# Altium footprint library KF301.PcbLib: 14 footprints
Each footprint in its own frame and in the unit in brackets; x right, y up, seen from the top. Pads: shape width x height; smd on the part's side, far side on the other; paste and mask are expansions set on the pad; w line width, h text height; cw(c..) or ccw(c..) is an arc to the next point about the centre after c.
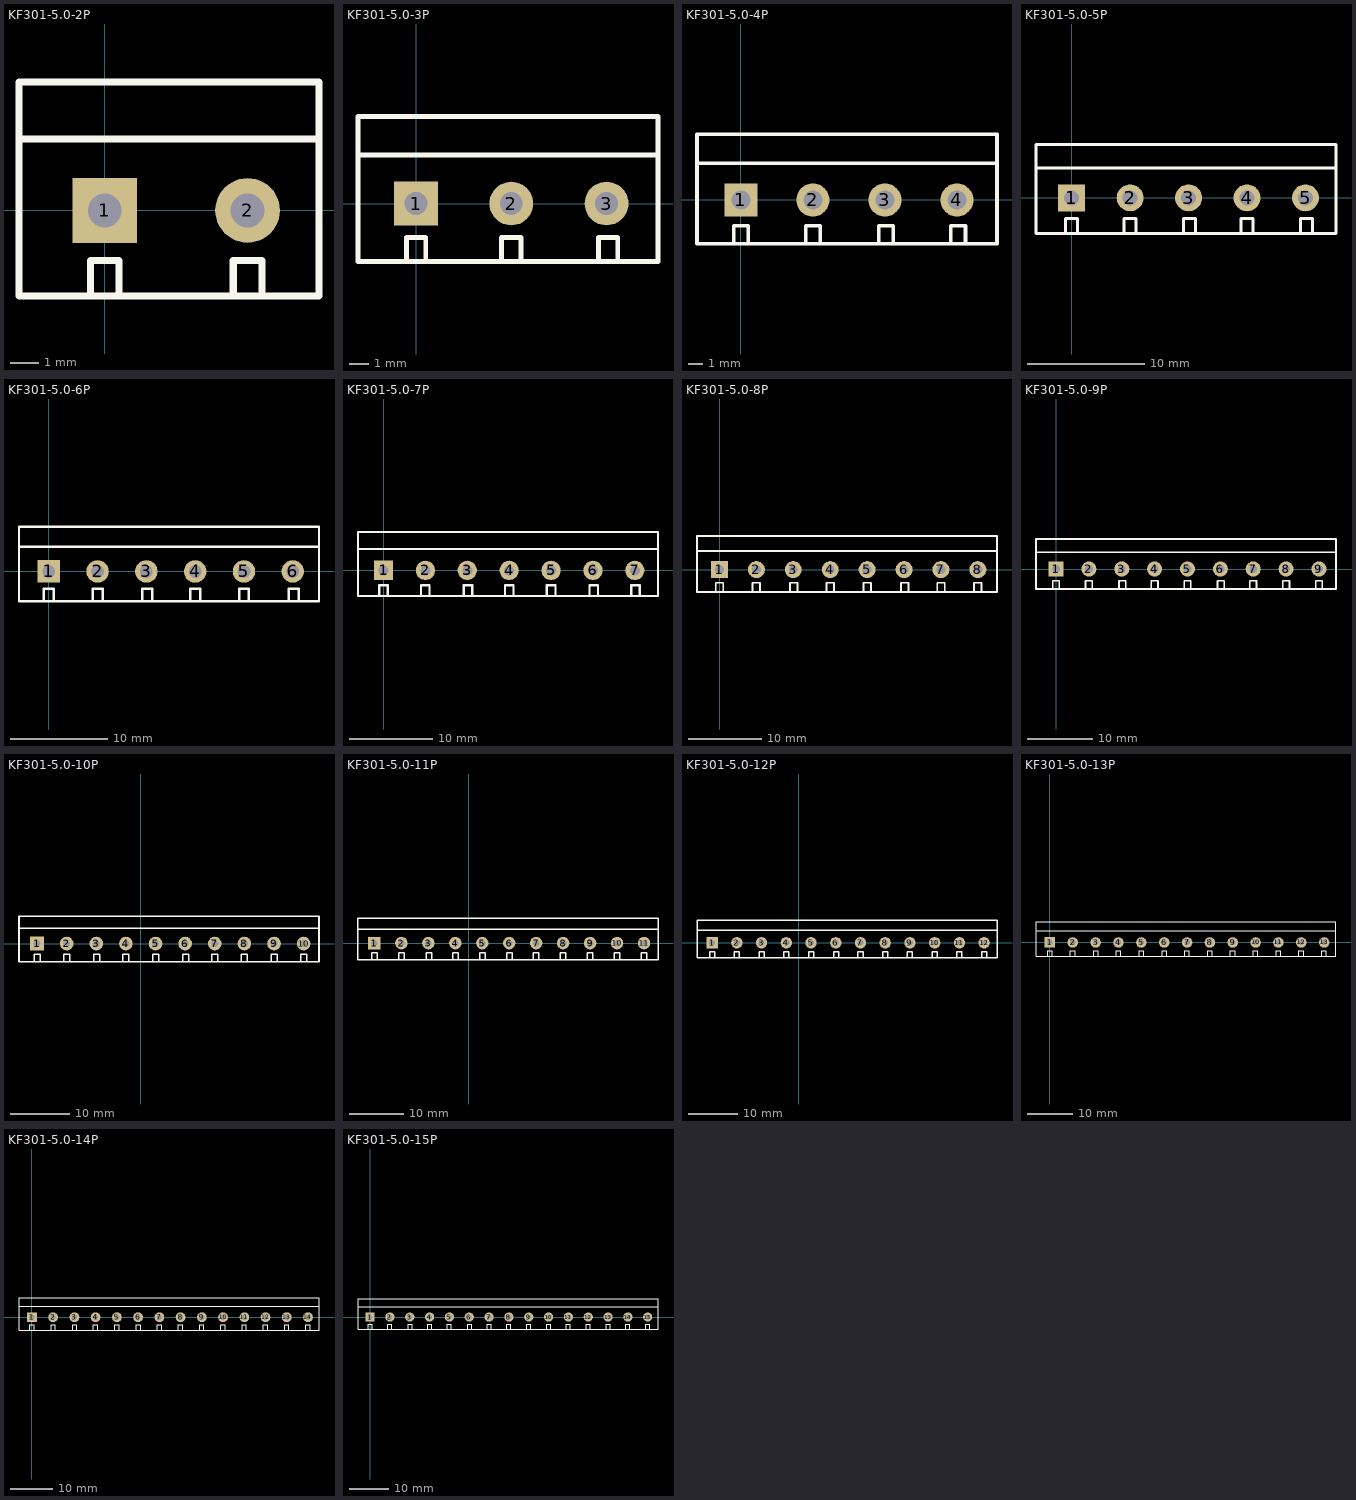
[diagram p0: the footprints below, top view; thin cyan lines are the x and y axes]

## KF301-5.0-2P [mm] "可拼接端子/6A"
pads (2):
  rect 2.3x2.3 hole 1.2: 1(0,0)
  round 2.3 hole 1.2: 2(5.08,0)
Top Overlay:
  lines w0.254: -3.048,2.54 7.62,2.54 ; -0.508,-3.048 -0.508,-1.778 0.508,-1.778 0.508,-3.048 ; 4.572,-3.048 4.572,-1.778 5.588,-1.778 5.588,-3.048 ; -3.048,-3.048 -3.048,4.572 7.62,4.572 7.62,-3.048 -3.048,-3.048
3D body "KF301-5.0.STEP": height 10.05, standoff -3.75, extent -2.997,-3.089 2.503,4.511
3D body "KF301-5.0.STEP": height 10.05, standoff -3.75, extent 2.003,-3.089 7.503,4.511

## KF301-5.0-3P [mm] "可拼接端子/6A"
pads (3):
  rect 2.3x2.3 hole 1.2: 1(0,0)
  round 2.3 hole 1.2: 2(5,0) 3(10,0)
Top Overlay:
  lines w0.254: -3.048,2.54 12.7,2.54 ; -0.508,-3.048 -0.508,-1.778 0.508,-1.778 0.508,-3.048 ; 4.492,-3.048 4.492,-1.778 5.508,-1.778 5.508,-3.048 ; 9.572,-3.048 9.572,-1.778 10.588,-1.778 10.588,-3.048 ; -3.048,-3.048 12.7,-3.048 12.7,4.572 -3.048,4.572 -3.048,-3.048
3D body "KF301-5.0.STEP": height 10.05, standoff -3.75, extent 7.003,-3.089 12.503,4.511
3D body "KF301-5.0.STEP": height 10.05, standoff -3.75, extent 2.003,-3.089 7.503,4.511
3D body "KF301-5.0.STEP": height 10.05, standoff -3.75, extent -2.997,-3.089 2.503,4.511

## KF301-5.0-4P [mm] "可拼接端子/6A"
pads (4):
  rect 2.3x2.3 hole 1.3: 1(0,0)
  round 2.3 hole 1.3: 2(5,0) 3(10,0) 4(15,0)
Top Overlay:
  lines w0.254: -3.048,2.54 17.78,2.54 ; -0.508,-3.048 -0.508,-1.778 0.508,-1.778 0.508,-3.048 ; 4.492,-3.048 4.492,-1.778 5.508,-1.778 5.508,-3.048 ; 9.572,-3.048 9.572,-1.778 10.588,-1.778 10.588,-3.048 ; 14.572,-3.048 14.572,-1.778 15.588,-1.778 15.588,-3.048 ; -3.048,-3.048 -3.048,4.572 17.78,4.572 17.78,-3.048 -3.048,-3.048
3D body "KF301-5.0.STEP": height 10.05, standoff -3.75, extent -2.997,-3.089 2.503,4.511
3D body "KF301-5.0.STEP": height 10.05, standoff -3.75, extent 2.003,-3.089 7.503,4.511
3D body "KF301-5.0.STEP": height 10.05, standoff -3.75, extent 7.003,-3.089 12.503,4.511
3D body "KF301-5.0.STEP": height 10.05, standoff -3.75, extent 12.003,-3.089 17.503,4.511

## KF301-5.0-5P [mm] "可拼接端子/6A"
pads (5):
  rect 2.3x2.3 hole 1.3: 1(0,0)
  round 2.3 hole 1.3: 2(5,0) 3(10,0) 4(15,0) 5(20,0)
Top Overlay:
  lines w0.254: -3.048,2.54 22.606,2.54 ; -0.508,-3.048 -0.508,-1.778 0.508,-1.778 0.508,-3.048 ; 4.492,-3.048 4.492,-1.778 5.508,-1.778 5.508,-3.048 ; 9.572,-3.048 9.572,-1.778 10.588,-1.778 10.588,-3.048 ; 14.492,-3.048 14.492,-1.778 15.508,-1.778 15.508,-3.048 ; 19.572,-3.048 19.572,-1.778 20.588,-1.778 20.588,-3.048 ; -3.048,-3.048 22.606,-3.048 22.606,4.572 -3.048,4.572 -3.048,-3.048
3D body "KF301-5.0.STEP": height 10.05, standoff -3.75, extent 17.003,-3.089 22.503,4.511
3D body "KF301-5.0.STEP": height 10.05, standoff -3.75, extent 12.003,-3.089 17.503,4.511
3D body "KF301-5.0.STEP": height 10.05, standoff -3.75, extent 7.003,-3.089 12.503,4.511
3D body "KF301-5.0.STEP": height 10.05, standoff -3.75, extent 2.003,-3.089 7.503,4.511
3D body "KF301-5.0.STEP": height 10.05, standoff -3.75, extent -2.997,-3.089 2.503,4.511

## KF301-5.0-6P [mm] "可拼接端子/6A"
pads (6):
  rect 2.3x2.3 hole 1.3: 1(0,0)
  round 2.3 hole 1.3: 2(5,0) 3(10,0) 4(15,0) 5(20,0) 6(25,0)
Top Overlay:
  lines w0.254: -3.048,2.54 27.686,2.54 ; -0.508,-3.048 -0.508,-1.778 0.508,-1.778 0.508,-3.048 ; 4.492,-3.048 4.492,-1.778 5.508,-1.778 5.508,-3.048 ; 9.572,-3.048 9.572,-1.778 10.588,-1.778 10.588,-3.048 ; 14.492,-3.048 14.492,-1.778 15.508,-1.778 15.508,-3.048 ; 19.492,-3.048 19.492,-1.778 20.508,-1.778 20.508,-3.048 ; 24.572,-3.048 24.572,-1.778 25.588,-1.778 25.588,-3.048 ; -3.048,-3.048 -3.048,4.572 27.686,4.572 27.686,-3.048 -3.048,-3.048
3D body "KF301-5.0.STEP": height 10.05, standoff -3.75, extent 22.003,-3.089 27.503,4.511
3D body "KF301-5.0.STEP": height 10.05, standoff -3.75, extent 17.003,-3.089 22.503,4.511
3D body "KF301-5.0.STEP": height 10.05, standoff -3.75, extent 12.003,-3.089 17.503,4.511
3D body "KF301-5.0.STEP": height 10.05, standoff -3.75, extent 7.003,-3.089 12.503,4.511
3D body "KF301-5.0.STEP": height 10.05, standoff -3.75, extent 2.003,-3.089 7.503,4.511
3D body "KF301-5.0.STEP": height 10.05, standoff -3.75, extent -2.997,-3.089 2.503,4.511

## KF301-5.0-7P [mm] "可拼接端子/6A"
pads (7):
  rect 2.3x2.3 hole 1.2: 1(0,0)
  round 2.3 hole 1.2: 2(5,0) 3(10,0) 4(15,0) 5(20,0) 6(25,0) 7(30,0)
Top Overlay:
  lines w0.254: -3.048,2.54 32.766,2.54 ; -0.508,-3.048 -0.508,-1.778 0.508,-1.778 0.508,-3.048 ; 4.492,-3.048 4.492,-1.778 5.508,-1.778 5.508,-3.048 ; 9.572,-3.048 9.572,-1.778 10.588,-1.778 10.588,-3.048 ; 14.492,-3.048 14.492,-1.778 15.508,-1.778 15.508,-3.048 ; 19.492,-3.048 19.492,-1.778 20.508,-1.778 20.508,-3.048 ; 24.572,-3.048 24.572,-1.778 25.588,-1.778 25.588,-3.048 ; 29.572,-3.048 29.572,-1.778 30.588,-1.778 30.588,-3.048 ; -3.048,-3.048 -3.048,4.572 32.766,4.572 32.766,-3.048 -3.048,-3.048
3D body "KF301-5.0.STEP": height 10.05, standoff -3.75, extent 27.003,-3.089 32.503,4.511
3D body "KF301-5.0.STEP": height 10.05, standoff -3.75, extent 22.003,-3.089 27.503,4.511
3D body "KF301-5.0.STEP": height 10.05, standoff -3.75, extent 17.003,-3.089 22.503,4.511
3D body "KF301-5.0.STEP": height 10.05, standoff -3.75, extent 12.003,-3.089 17.503,4.511
3D body "KF301-5.0.STEP": height 10.05, standoff -3.75, extent 7.003,-3.089 12.503,4.511
3D body "KF301-5.0.STEP": height 10.05, standoff -3.75, extent 2.003,-3.089 7.503,4.511
3D body "KF301-5.0.STEP": height 10.05, standoff -3.75, extent -2.997,-3.089 2.503,4.511

## KF301-5.0-8P [mm] "可拼接端子/6A"
pads (8):
  rect 2.3x2.3 hole 1.2: 1(0,0)
  round 2.3 hole 1.2: 2(5,0) 3(10,0) 4(15,0) 5(20,0) 6(25,0) 7(30,0) 8(35,0)
Top Overlay:
  lines w0.254: -3.048,2.54 37.592,2.54 ; -0.508,-3.048 -0.508,-1.778 0.508,-1.778 0.508,-3.048 ; 4.492,-3.048 4.492,-1.778 5.508,-1.778 5.508,-3.048 ; 9.572,-3.048 9.572,-1.778 10.588,-1.778 10.588,-3.048 ; 14.492,-3.048 14.492,-1.778 15.508,-1.778 15.508,-3.048 ; 19.492,-3.048 19.492,-1.778 20.508,-1.778 20.508,-3.048 ; 24.572,-3.048 24.572,-1.778 25.588,-1.778 25.588,-3.048 ; 29.492,-3.048 29.492,-1.778 30.508,-1.778 30.508,-3.048 ; 34.492,-3.048 34.492,-1.778 35.508,-1.778 35.508,-3.048 ; -3.048,-3.048 -3.048,4.572 37.592,4.572 37.592,-3.048 -3.048,-3.048
3D body "KF301-5.0.STEP": height 10.05, standoff -3.75, extent -2.997,-3.089 2.503,4.511
3D body "KF301-5.0.STEP": height 10.05, standoff -3.75, extent 2.003,-3.089 7.503,4.511
3D body "KF301-5.0.STEP": height 10.05, standoff -3.75, extent 7.003,-3.089 12.503,4.511
3D body "KF301-5.0.STEP": height 10.05, standoff -3.75, extent 12.003,-3.089 17.503,4.511
3D body "KF301-5.0.STEP": height 10.05, standoff -3.75, extent 17.003,-3.089 22.503,4.511
3D body "KF301-5.0.STEP": height 10.05, standoff -3.75, extent 22.003,-3.089 27.503,4.511
3D body "KF301-5.0.STEP": height 10.05, standoff -3.75, extent 27.003,-3.089 32.503,4.511
3D body "KF301-5.0.STEP": height 10.05, standoff -3.75, extent 32.003,-3.089 37.503,4.511

## KF301-5.0-9P [mm] "可拼接端子/6A"
pads (9):
  rect 2.3x2.3 hole 1.2: 1(0,0)
  round 2.3 hole 1.2: 2(5,0) 3(10,0) 4(15,0) 5(20,0) 6(25,0) 7(30,0) 8(35,0) 9(40,0)
Top Overlay:
  lines w0.254: -3.048,2.54 37.592,2.54 42.552,2.54 ; -0.508,-3.048 -0.508,-1.778 0.508,-1.778 0.508,-3.048 ; 4.492,-3.048 4.492,-1.778 5.508,-1.778 5.508,-3.048 ; 9.572,-3.048 9.572,-1.778 10.588,-1.778 10.588,-3.048 ; 14.492,-3.048 14.492,-1.778 15.508,-1.778 15.508,-3.048 ; 19.492,-3.048 19.492,-1.778 20.508,-1.778 20.508,-3.048 ; 24.572,-3.048 24.572,-1.778 25.588,-1.778 25.588,-3.048 ; 29.492,-3.048 29.492,-1.778 30.508,-1.778 30.508,-3.048 ; 34.492,-3.048 34.492,-1.778 35.508,-1.778 35.508,-3.048 ; 39.492,-3.048 39.492,-1.778 40.508,-1.778 40.508,-3.048 ; -3.048,-3.048 -3.048,4.572 37.592,4.572 42.592,4.572 42.592,-3.048 37.592,-3.048 -3.048,-3.048
3D body "KF301-5.0.STEP": height 10.05, standoff -3.75, extent 37.003,-3.089 42.503,4.511
3D body "KF301-5.0.STEP": height 10.05, standoff -3.75, extent 32.003,-3.089 37.503,4.511
3D body "KF301-5.0.STEP": height 10.05, standoff -3.75, extent 27.003,-3.089 32.503,4.511
3D body "KF301-5.0.STEP": height 10.05, standoff -3.75, extent 22.003,-3.089 27.503,4.511
3D body "KF301-5.0.STEP": height 10.05, standoff -3.75, extent 17.003,-3.089 22.503,4.511
3D body "KF301-5.0.STEP": height 10.05, standoff -3.75, extent 12.003,-3.089 17.503,4.511
3D body "KF301-5.0.STEP": height 10.05, standoff -3.75, extent 7.003,-3.089 12.503,4.511
3D body "KF301-5.0.STEP": height 10.05, standoff -3.75, extent 2.003,-3.089 7.503,4.511
3D body "KF301-5.0.STEP": height 10.05, standoff -3.75, extent -2.997,-3.089 2.503,4.511

## KF301-5.0-10P [mm] "可拼接端子/6A"
pads (10):
  rect 2.3x2.3 hole 1.2: 1(-17.5,0)
  round 2.3 hole 1.2: 2(-12.5,0) 3(-7.5,0) 4(-2.5,0) 5(2.5,0) 6(7.5,0) 7(12.5,0) 8(17.5,0) 9(22.5,0) 10(27.5,0)
Top Overlay:
  lines w0.254: -20.548,2.54 20.092,2.54 25.052,2.54 ; -18.008,-3.048 -18.008,-1.778 -16.992,-1.778 -16.992,-3.048 ; -13.008,-3.048 -13.008,-1.778 -11.992,-1.778 -11.992,-3.048 ; -7.928,-3.048 -7.928,-1.778 -6.912,-1.778 -6.912,-3.048 ; -3.008,-3.048 -3.008,-1.778 -1.992,-1.778 -1.992,-3.048 ; 1.992,-3.048 1.992,-1.778 3.008,-1.778 3.008,-3.048 ; 7.072,-3.048 7.072,-1.778 8.088,-1.778 8.088,-3.048 ; 11.992,-3.048 11.992,-1.778 13.008,-1.778 13.008,-3.048 ; 16.992,-3.048 16.992,-1.778 18.008,-1.778 18.008,-3.048 ; 21.992,-3.048 21.992,-1.778 23.008,-1.778 23.008,-3.048 ; 25.092,2.54 30.052,2.54 ; 26.992,-3.048 26.992,-1.778 28.008,-1.778 28.008,-3.048 ; -20.548,-3.048 20.092,-3.048 25.092,-3.048 30.092,-3.048 30.092,4.572 25.092,4.572 20.092,4.572 -20.548,4.572 -20.548,-3.048
3D body "KF301-5.0.STEP": height 10.05, standoff -3.75, extent -20.497,-3.089 -14.997,4.511
3D body "KF301-5.0.STEP": height 10.05, standoff -3.75, extent -15.497,-3.089 -9.997,4.511
3D body "KF301-5.0.STEP": height 10.05, standoff -3.75, extent -10.497,-3.089 -4.997,4.511
3D body "KF301-5.0.STEP": height 10.05, standoff -3.75, extent -5.497,-3.089 0.003,4.511
3D body "KF301-5.0.STEP": height 10.05, standoff -3.75, extent -0.497,-3.089 5.003,4.511
3D body "KF301-5.0.STEP": height 10.05, standoff -3.75, extent 4.503,-3.089 10.003,4.511
3D body "KF301-5.0.STEP": height 10.05, standoff -3.75, extent 9.503,-3.089 15.003,4.511
3D body "KF301-5.0.STEP": height 10.05, standoff -3.75, extent 14.503,-3.089 20.003,4.511
3D body "KF301-5.0.STEP": height 10.05, standoff -3.75, extent 19.503,-3.089 25.003,4.511
3D body "KF301-5.0.STEP": height 10.05, standoff -3.75, extent 24.503,-3.089 30.003,4.511
3D body "KF301-5.0.STEP": height 10.05, standoff -3.75, extent 29.503,-3.089 35.003,4.511

## KF301-5.0-11P [mm] "可拼接端子/6A"
pads (11):
  rect 2.3x2.3 hole 1.2: 1(-17.5,0)
  round 2.3 hole 1.2: 2(-12.5,0) 3(-7.5,0) 4(-2.5,0) 5(2.5,0) 6(7.5,0) 7(12.5,0) 8(17.5,0) 9(22.5,0) 10(27.5,0) 11(32.5,0)
Top Overlay:
  lines w0.254: -20.548,2.54 20.092,2.54 25.052,2.54 ; -18.008,-3.048 -18.008,-1.778 -16.992,-1.778 -16.992,-3.048 ; -13.008,-3.048 -13.008,-1.778 -11.992,-1.778 -11.992,-3.048 ; -7.928,-3.048 -7.928,-1.778 -6.912,-1.778 -6.912,-3.048 ; -3.008,-3.048 -3.008,-1.778 -1.992,-1.778 -1.992,-3.048 ; 1.992,-3.048 1.992,-1.778 3.008,-1.778 3.008,-3.048 ; 7.072,-3.048 7.072,-1.778 8.088,-1.778 8.088,-3.048 ; 11.992,-3.048 11.992,-1.778 13.008,-1.778 13.008,-3.048 ; 16.992,-3.048 16.992,-1.778 18.008,-1.778 18.008,-3.048 ; 21.992,-3.048 21.992,-1.778 23.008,-1.778 23.008,-3.048 ; 25.092,2.54 30.052,2.54 ; 26.992,-3.048 26.992,-1.778 28.008,-1.778 28.008,-3.048 ; 30.092,2.54 35.052,2.54 ; 31.992,-3.048 31.992,-1.778 33.008,-1.778 33.008,-3.048 ; -20.548,-3.048 -20.548,4.572 20.092,4.572 25.092,4.572 30.092,4.572 35.092,4.572 35.092,-3.048 30.092,-3.048 25.092,-3.048 20.092,-3.048 -20.548,-3.048
3D body "KF301-5.0.STEP": height 10.05, standoff -3.75, extent 29.503,-3.089 35.003,4.511
3D body "KF301-5.0.STEP": height 10.05, standoff -3.75, extent 24.503,-3.089 30.003,4.511
3D body "KF301-5.0.STEP": height 10.05, standoff -3.75, extent 19.503,-3.089 25.003,4.511
3D body "KF301-5.0.STEP": height 10.05, standoff -3.75, extent 14.503,-3.089 20.003,4.511
3D body "KF301-5.0.STEP": height 10.05, standoff -3.75, extent 9.503,-3.089 15.003,4.511
3D body "KF301-5.0.STEP": height 10.05, standoff -3.75, extent 4.503,-3.089 10.003,4.511
3D body "KF301-5.0.STEP": height 10.05, standoff -3.75, extent -0.497,-3.089 5.003,4.511
3D body "KF301-5.0.STEP": height 10.05, standoff -3.75, extent -5.497,-3.089 0.003,4.511
3D body "KF301-5.0.STEP": height 10.05, standoff -3.75, extent -10.497,-3.089 -4.997,4.511
3D body "KF301-5.0.STEP": height 10.05, standoff -3.75, extent -15.497,-3.089 -9.997,4.511
3D body "KF301-5.0.STEP": height 10.05, standoff -3.75, extent -20.497,-3.089 -14.997,4.511

## KF301-5.0-12P [mm] "可拼接端子/6A"
pads (12):
  rect 2.3x2.3 hole 1.2: 1(-17.5,0)
  round 2.3 hole 1.2: 2(-12.5,0) 3(-7.5,0) 4(-2.5,0) 5(2.5,0) 6(7.5,0) 7(12.5,0) 8(17.5,0) 9(22.5,0) 10(27.5,0) 11(32.5,0) 12(37.5,0)
Top Overlay:
  lines w0.254: -20.548,2.54 20.092,2.54 25.052,2.54 ; -18.008,-3.048 -18.008,-1.778 -16.992,-1.778 -16.992,-3.048 ; -13.008,-3.048 -13.008,-1.778 -11.992,-1.778 -11.992,-3.048 ; -7.928,-3.048 -7.928,-1.778 -6.912,-1.778 -6.912,-3.048 ; -3.008,-3.048 -3.008,-1.778 -1.992,-1.778 -1.992,-3.048 ; 1.992,-3.048 1.992,-1.778 3.008,-1.778 3.008,-3.048 ; 7.072,-3.048 7.072,-1.778 8.088,-1.778 8.088,-3.048 ; 11.992,-3.048 11.992,-1.778 13.008,-1.778 13.008,-3.048 ; 16.992,-3.048 16.992,-1.778 18.008,-1.778 18.008,-3.048 ; 21.992,-3.048 21.992,-1.778 23.008,-1.778 23.008,-3.048 ; 25.092,2.54 30.052,2.54 ; 26.992,-3.048 26.992,-1.778 28.008,-1.778 28.008,-3.048 ; 30.092,2.54 35.052,2.54 ; 31.992,-3.048 31.992,-1.778 33.008,-1.778 33.008,-3.048 ; 35.092,2.54 40.052,2.54 ; 36.992,-3.048 36.992,-1.778 38.008,-1.778 38.008,-3.048 ; -20.548,-3.048 -20.548,4.572 20.092,4.572 25.092,4.572 30.092,4.572 35.092,4.572 40.092,4.572 40.092,-3.048 35.092,-3.048 30.092,-3.048 25.092,-3.048 20.092,-3.048 -20.548,-3.048
3D body "KF301-5.0.STEP": height 10.05, standoff -3.75, extent -20.497,-3.089 -14.997,4.511
3D body "KF301-5.0.STEP": height 10.05, standoff -3.75, extent -15.497,-3.089 -9.997,4.511
3D body "KF301-5.0.STEP": height 10.05, standoff -3.75, extent -10.497,-3.089 -4.997,4.511
3D body "KF301-5.0.STEP": height 10.05, standoff -3.75, extent -5.497,-3.089 0.003,4.511
3D body "KF301-5.0.STEP": height 10.05, standoff -3.75, extent -0.497,-3.089 5.003,4.511
3D body "KF301-5.0.STEP": height 10.05, standoff -3.75, extent 4.503,-3.089 10.003,4.511
3D body "KF301-5.0.STEP": height 10.05, standoff -3.75, extent 9.503,-3.089 15.003,4.511
3D body "KF301-5.0.STEP": height 10.05, standoff -3.75, extent 14.503,-3.089 20.003,4.511
3D body "KF301-5.0.STEP": height 10.05, standoff -3.75, extent 19.503,-3.089 25.003,4.511
3D body "KF301-5.0.STEP": height 10.05, standoff -3.75, extent 24.503,-3.089 30.003,4.511
3D body "KF301-5.0.STEP": height 10.05, standoff -3.75, extent 29.503,-3.089 35.003,4.511
3D body "KF301-5.0.STEP": height 10.05, standoff -3.75, extent 34.503,-3.089 40.003,4.511

## KF301-5.0-13P [mm] "可拼接端子/6A"
pads (13):
  rect 2.3x2.3 hole 1.2: 1(0,0)
  round 2.3 hole 1.2: 2(5,0) 3(10,0) 4(15,0) 5(20,0) 6(25,0) 7(30,0) 8(35,0) 9(40,0) 10(45,0) 11(50,0) 12(55,0) 13(60,0)
Top Overlay:
  lines w0.254: -3.048,2.54 37.592,2.54 42.552,2.54 ; -0.508,-3.048 -0.508,-1.778 0.508,-1.778 0.508,-3.048 ; 4.492,-3.048 4.492,-1.778 5.508,-1.778 5.508,-3.048 ; 9.572,-3.048 9.572,-1.778 10.588,-1.778 10.588,-3.048 ; 14.492,-3.048 14.492,-1.778 15.508,-1.778 15.508,-3.048 ; 19.492,-3.048 19.492,-1.778 20.508,-1.778 20.508,-3.048 ; 24.572,-3.048 24.572,-1.778 25.588,-1.778 25.588,-3.048 ; 29.492,-3.048 29.492,-1.778 30.508,-1.778 30.508,-3.048 ; 34.492,-3.048 34.492,-1.778 35.508,-1.778 35.508,-3.048 ; 39.492,-3.048 39.492,-1.778 40.508,-1.778 40.508,-3.048 ; 42.592,2.54 47.552,2.54 ; 44.492,-3.048 44.492,-1.778 45.508,-1.778 45.508,-3.048 ; 47.592,2.54 52.552,2.54 ; 49.492,-3.048 49.492,-1.778 50.508,-1.778 50.508,-3.048 ; 52.592,2.54 57.552,2.54 ; 54.492,-3.048 54.492,-1.778 55.508,-1.778 55.508,-3.048 ; 57.592,2.54 62.552,2.54 ; 59.492,-3.048 59.492,-1.778 60.508,-1.778 60.508,-3.048 ; -3.048,-3.048 37.592,-3.048 42.592,-3.048 47.592,-3.048 52.592,-3.048 57.592,-3.048 62.592,-3.048 62.592,4.572 57.592,4.572 52.592,4.572 47.592,4.572 42.592,4.572 37.592,4.572 -3.048,4.572 -3.048,-3.048
3D body "KF301-5.0.STEP": height 10.05, standoff -3.75, extent 57.003,-3.089 62.503,4.511
3D body "KF301-5.0.STEP": height 10.05, standoff -3.75, extent 52.003,-3.089 57.503,4.511
3D body "KF301-5.0.STEP": height 10.05, standoff -3.75, extent 47.003,-3.089 52.503,4.511
3D body "KF301-5.0.STEP": height 10.05, standoff -3.75, extent 42.003,-3.089 47.503,4.511
3D body "KF301-5.0.STEP": height 10.05, standoff -3.75, extent 37.003,-3.089 42.503,4.511
3D body "KF301-5.0.STEP": height 10.05, standoff -3.75, extent 32.003,-3.089 37.503,4.511
3D body "KF301-5.0.STEP": height 10.05, standoff -3.75, extent 27.003,-3.089 32.503,4.511
3D body "KF301-5.0.STEP": height 10.05, standoff -3.75, extent 22.003,-3.089 27.503,4.511
3D body "KF301-5.0.STEP": height 10.05, standoff -3.75, extent 17.003,-3.089 22.503,4.511
3D body "KF301-5.0.STEP": height 10.05, standoff -3.75, extent 12.003,-3.089 17.503,4.511
3D body "KF301-5.0.STEP": height 10.05, standoff -3.75, extent 7.003,-3.089 12.503,4.511
3D body "KF301-5.0.STEP": height 10.05, standoff -3.75, extent 2.003,-3.089 7.503,4.511
3D body "KF301-5.0.STEP": height 10.05, standoff -3.75, extent -2.997,-3.089 2.503,4.511

## KF301-5.0-14P [mm] "可拼接端子/6A"
pads (14):
  rect 2.3x2.3 hole 1.2: 1(0,0)
  round 2.3 hole 1.2: 2(5,0) 3(10,0) 4(15,0) 5(20,0) 6(25,0) 7(30,0) 8(35,0) 9(40,0) 10(45,0) 11(50,0) 12(55,0) 13(60,0) 14(65,0)
Top Overlay:
  lines w0.254: -3.048,2.54 37.592,2.54 42.552,2.54 ; -0.508,-3.048 -0.508,-1.778 0.508,-1.778 0.508,-3.048 ; 4.492,-3.048 4.492,-1.778 5.508,-1.778 5.508,-3.048 ; 9.572,-3.048 9.572,-1.778 10.588,-1.778 10.588,-3.048 ; 14.492,-3.048 14.492,-1.778 15.508,-1.778 15.508,-3.048 ; 19.492,-3.048 19.492,-1.778 20.508,-1.778 20.508,-3.048 ; 24.572,-3.048 24.572,-1.778 25.588,-1.778 25.588,-3.048 ; 29.492,-3.048 29.492,-1.778 30.508,-1.778 30.508,-3.048 ; 34.492,-3.048 34.492,-1.778 35.508,-1.778 35.508,-3.048 ; 39.492,-3.048 39.492,-1.778 40.508,-1.778 40.508,-3.048 ; 42.592,2.54 47.552,2.54 ; 44.492,-3.048 44.492,-1.778 45.508,-1.778 45.508,-3.048 ; 47.592,2.54 52.552,2.54 ; 49.492,-3.048 49.492,-1.778 50.508,-1.778 50.508,-3.048 ; 52.592,2.54 57.552,2.54 ; 54.492,-3.048 54.492,-1.778 55.508,-1.778 55.508,-3.048 ; 57.592,2.54 62.552,2.54 ; 59.492,-3.048 59.492,-1.778 60.508,-1.778 60.508,-3.048 ; 62.592,2.54 67.552,2.54 ; 64.492,-3.048 64.492,-1.778 65.508,-1.778 65.508,-3.048 ; -3.048,-3.048 37.592,-3.048 42.592,-3.048 47.592,-3.048 52.592,-3.048 57.592,-3.048 62.592,-3.048 67.592,-3.048 67.592,4.572 62.592,4.572 57.592,4.572 52.592,4.572 47.592,4.572 42.592,4.572 37.592,4.572 -3.048,4.572 -3.048,-3.048
3D body "KF301-5.0.STEP": height 10.05, standoff -3.75, extent 62.003,-3.089 67.503,4.511
3D body "KF301-5.0.STEP": height 10.05, standoff -3.75, extent 57.003,-3.089 62.503,4.511
3D body "KF301-5.0.STEP": height 10.05, standoff -3.75, extent 52.003,-3.089 57.503,4.511
3D body "KF301-5.0.STEP": height 10.05, standoff -3.75, extent 47.003,-3.089 52.503,4.511
3D body "KF301-5.0.STEP": height 10.05, standoff -3.75, extent 42.003,-3.089 47.503,4.511
3D body "KF301-5.0.STEP": height 10.05, standoff -3.75, extent 37.003,-3.089 42.503,4.511
3D body "KF301-5.0.STEP": height 10.05, standoff -3.75, extent 32.003,-3.089 37.503,4.511
3D body "KF301-5.0.STEP": height 10.05, standoff -3.75, extent 27.003,-3.089 32.503,4.511
3D body "KF301-5.0.STEP": height 10.05, standoff -3.75, extent 22.003,-3.089 27.503,4.511
3D body "KF301-5.0.STEP": height 10.05, standoff -3.75, extent 17.003,-3.089 22.503,4.511
3D body "KF301-5.0.STEP": height 10.05, standoff -3.75, extent 12.003,-3.089 17.503,4.511
3D body "KF301-5.0.STEP": height 10.05, standoff -3.75, extent 7.003,-3.089 12.503,4.511
3D body "KF301-5.0.STEP": height 10.05, standoff -3.75, extent 2.003,-3.089 7.503,4.511
3D body "KF301-5.0.STEP": height 10.05, standoff -3.75, extent -2.997,-3.089 2.503,4.511

## KF301-5.0-15P [mm] "可拼接端子/6A"
pads (15):
  rect 2.3x2.3 hole 1.2: 1(0,0)
  round 2.3 hole 1.2: 2(5,0) 3(10,0) 4(15,0) 5(20,0) 6(25,0) 7(30,0) 8(35,0) 9(40,0) 10(45,0) 11(50,0) 12(55,0) 13(60,0) 14(65,0) 15(70,0)
Top Overlay:
  lines w0.254: -3.048,2.54 37.592,2.54 42.552,2.54 ; -0.508,-3.048 -0.508,-1.778 0.508,-1.778 0.508,-3.048 ; 4.492,-3.048 4.492,-1.778 5.508,-1.778 5.508,-3.048 ; 9.572,-3.048 9.572,-1.778 10.588,-1.778 10.588,-3.048 ; 14.492,-3.048 14.492,-1.778 15.508,-1.778 15.508,-3.048 ; 19.492,-3.048 19.492,-1.778 20.508,-1.778 20.508,-3.048 ; 24.572,-3.048 24.572,-1.778 25.588,-1.778 25.588,-3.048 ; 29.492,-3.048 29.492,-1.778 30.508,-1.778 30.508,-3.048 ; 34.492,-3.048 34.492,-1.778 35.508,-1.778 35.508,-3.048 ; 39.492,-3.048 39.492,-1.778 40.508,-1.778 40.508,-3.048 ; 42.592,2.54 47.552,2.54 ; 44.492,-3.048 44.492,-1.778 45.508,-1.778 45.508,-3.048 ; 47.592,2.54 52.552,2.54 ; 49.492,-3.048 49.492,-1.778 50.508,-1.778 50.508,-3.048 ; 52.592,2.54 57.552,2.54 ; 54.492,-3.048 54.492,-1.778 55.508,-1.778 55.508,-3.048 ; 57.592,2.54 62.552,2.54 ; 59.492,-3.048 59.492,-1.778 60.508,-1.778 60.508,-3.048 ; 62.592,2.54 67.552,2.54 ; 64.492,-3.048 64.492,-1.778 65.508,-1.778 65.508,-3.048 ; 67.592,2.54 72.552,2.54 ; 69.492,-3.048 69.492,-1.778 70.508,-1.778 70.508,-3.048 ; -3.048,-3.048 -3.048,4.572 37.592,4.572 42.592,4.572 47.592,4.572 52.592,4.572 57.592,4.572 62.592,4.572 67.592,4.572 72.592,4.572 72.592,-3.048 67.592,-3.048 62.592,-3.048 57.592,-3.048 52.592,-3.048 47.592,-3.048 42.592,-3.048 37.592,-3.048 -3.048,-3.048
3D body "KF301-5.0.STEP": height 10.05, standoff -3.75, extent -2.997,-3.089 2.503,4.511
3D body "KF301-5.0.STEP": height 10.05, standoff -3.75, extent 2.003,-3.089 7.503,4.511
3D body "KF301-5.0.STEP": height 10.05, standoff -3.75, extent 7.003,-3.089 12.503,4.511
3D body "KF301-5.0.STEP": height 10.05, standoff -3.75, extent 12.003,-3.089 17.503,4.511
3D body "KF301-5.0.STEP": height 10.05, standoff -3.75, extent 17.003,-3.089 22.503,4.511
3D body "KF301-5.0.STEP": height 10.05, standoff -3.75, extent 22.003,-3.089 27.503,4.511
3D body "KF301-5.0.STEP": height 10.05, standoff -3.75, extent 27.003,-3.089 32.503,4.511
3D body "KF301-5.0.STEP": height 10.05, standoff -3.75, extent 32.003,-3.089 37.503,4.511
3D body "KF301-5.0.STEP": height 10.05, standoff -3.75, extent 37.003,-3.089 42.503,4.511
3D body "KF301-5.0.STEP": height 10.05, standoff -3.75, extent 42.003,-3.089 47.503,4.511
3D body "KF301-5.0.STEP": height 10.05, standoff -3.75, extent 47.003,-3.089 52.503,4.511
3D body "KF301-5.0.STEP": height 10.05, standoff -3.75, extent 52.003,-3.089 57.503,4.511
3D body "KF301-5.0.STEP": height 10.05, standoff -3.75, extent 57.003,-3.089 62.503,4.511
3D body "KF301-5.0.STEP": height 10.05, standoff -3.75, extent 62.003,-3.089 67.503,4.511
3D body "KF301-5.0.STEP": height 10.05, standoff -3.75, extent 67.003,-3.089 72.503,4.511